# Altium footprint library startbutton.PcbLib: 1 footprints
Each footprint in its own frame and in the unit in brackets; x right, y up, seen from the top. Pads: shape width x height; smd on the part's side, far side on the other; paste and mask are expansions set on the pad; w line width, h text height; cw(c..) or ccw(c..) is an arc to the next point about the centre after c.
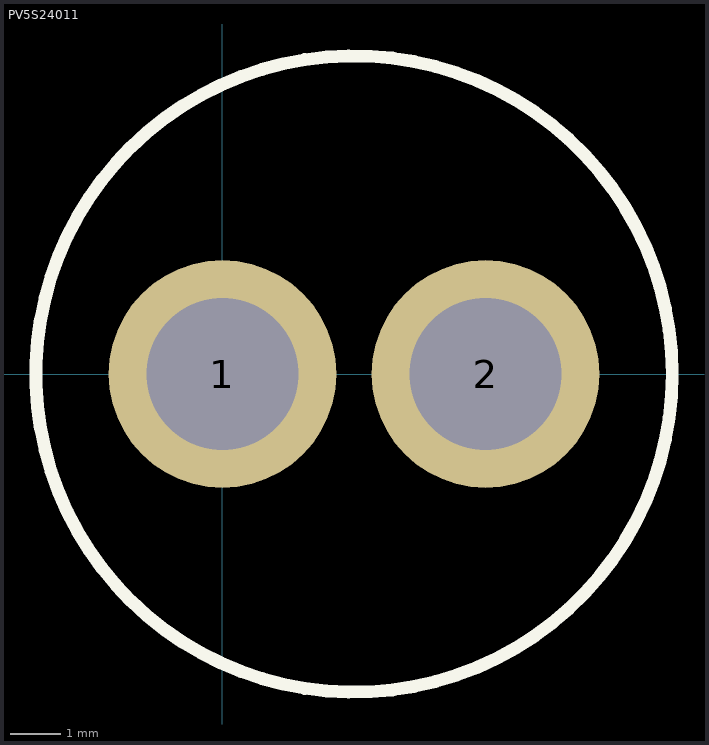
[diagram p0: the footprint, top view; thin cyan lines are the x and y axes]

## PV5S24011 [mm] "Pushbutton Switches 0-2A 48VDC Off (On) 12mm Black Domed"
height 12
pads (2):
  round 4.5 hole 3: 1(0,0) 2(5.2,0)
Top Overlay:
  circle w0.254: c2.6,0 r6.289